# Altium schematic symbol library Schlib1.SchLib: 7 symbols
Pins are listed as number, name and electrical type; pins without a type are passive.

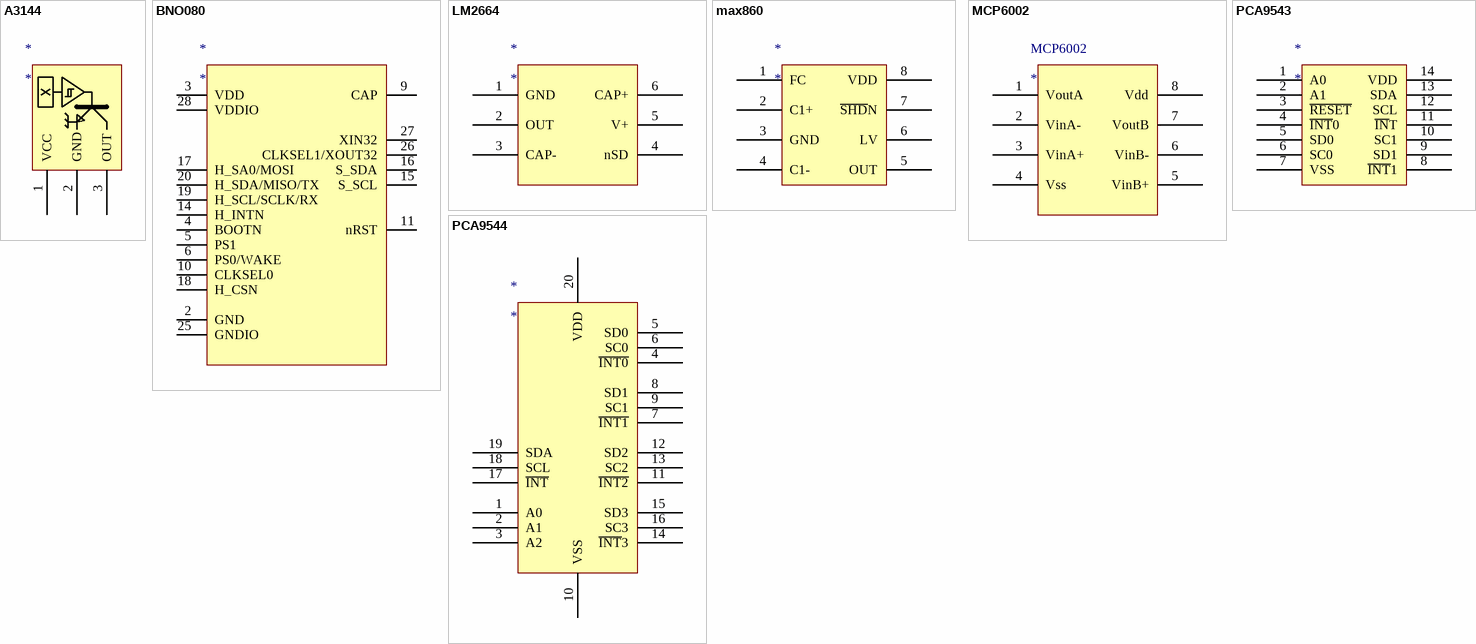
[diagram p0: symbols A3144 to PCA9544]

## A3144
designator *
pins: 1 VCC, 2 GND, 3 OUT

## BNO080
designator *
pins: 2 GND, 3 VDD, 4 BOOTN, 5 PS1, 6 PS0/WAKE, 9 CAP, 10 CLKSEL0, 11 nRST, 14 H_INTN, 15 S_SCL, 16 S_SDA, 17 H_SA0/MOSI, 18 H_CSN, 19 H_SCL/SCLK/RX, 20 H_SDA/MISO/TX, 25 GNDIO, 26 CLKSEL1/XOUT32, 27 XIN32, 28 VDDIO

## LM2664
designator *
pins: 1 GND, 2 OUT, 3 CAP-, 4 nSD, 5 V+, 6 CAP+

## max860
designator *
pins: 1 FC, 2 C1+, 3 GND, 4 C1-, 5 OUT, 6 LV, 7 ~{SHD}N, 8 VDD

## MCP6002
designator MCP6002
pins: 1 VoutA, 2 VinA-, 3 VinA+, 4 Vss, 5 VinB+, 6 VinB-, 7 VoutB, 8 Vdd

## PCA9543
designator *
pins: 1 A0, 2 A1, 3 ~{RESET}, 4 ~{INT}0, 5 SD0, 6 SC0, 7 VSS, 8 ~{INT}1, 9 SD1, 10 SC1, 11 ~{IN}T, 12 SCL, 13 SDA, 14 VDD

## PCA9544
designator *
pins: 1 A0, 2 A1, 3 A2, 4 ~{INT0}, 5 SD0, 6 SC0, 7 ~{INT1}, 8 SD1, 9 SC1, 10 VSS, 11 ~{INT2}, 12 SD2, 13 SC2, 14 ~{INT}3, 15 SD3, 16 SC3, 17 ~{INT}, 18 SCL, 19 SDA, 20 VDD